# Altium footprint library chip.PcbLib: 31 footprints (part 1 of 2)
Each footprint in its own frame and in the unit in brackets; x right, y up, seen from the top. Pads: shape width x height; smd on the part's side, far side on the other; paste and mask are expansions set on the pad; w line width, h text height; cw(c..) or ccw(c..) is an arc to the next point about the centre after c.
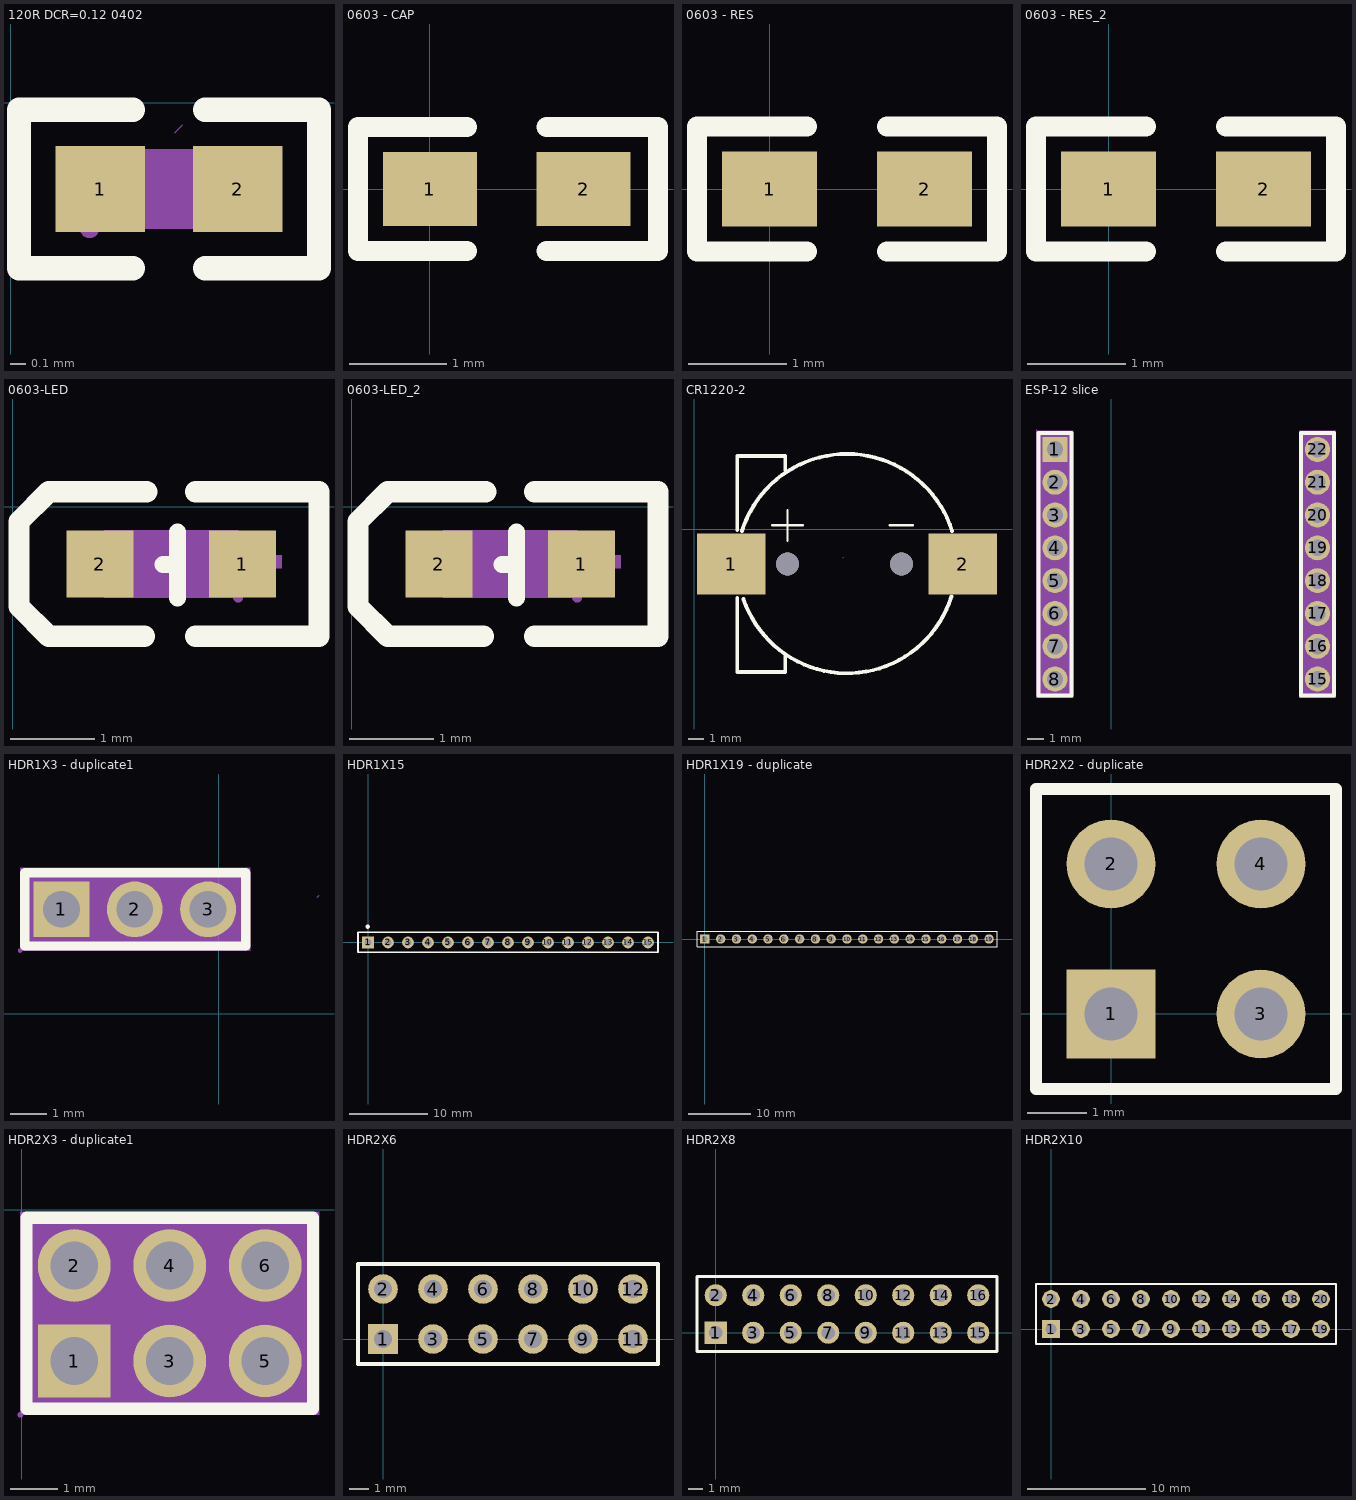
[diagram p0: the footprints below, top view; thin cyan lines are the x and y axes]

## 120R DCR=0.12 0402 [mm]
pads (2):
  rect 0.566x0.54 smd: 1(0.562,-0.543) 2(1.428,-0.543)
Top Overlay:
  lines w0.152: 0.769,-1.041 0.051,-1.041 0.051,-0.044 0.769,-0.044 ; 1.221,-1.041 1.939,-1.041 1.939,-0.044 1.221,-0.044
Top Paste:
  region: 0.86,-0.773 0.86,-0.313 0.82,-0.273 0.319,-0.273 0.279,-0.313 0.279,-0.773 0.319,-0.813 0.82,-0.813
  region: 1.13,-0.773 1.13,-0.313 1.17,-0.273 1.671,-0.273 1.711,-0.313 1.711,-0.773 1.671,-0.813 1.17,-0.813
Mechanical 4:
  region: 0.495,-0.793 0.495,-0.293 1.495,-0.293 1.495,-0.793
Mechanical 5:
  region: 1.496,-0.793 1.496,-0.293 1.246,-0.293 1.246,-0.793
  region: 0.495,-0.793 0.495,-0.293 0.745,-0.293 0.745,-0.793
Mechanical 6:
  circle w0.06: c0.495,-0.793 r0.03
Mechanical 15:
  lines w0.003: 1.031,-0.189 1.082,-0.138

## 0603 - CAP [mil]
pads (2):
  rect 38x30 smd: 1(0,0) 2(62,0)
Top Overlay:
  lines w8: 15,-25 -29,-25 -29,25 15,25 ; 47,-25 92,-25 92,25 47,25
3D body "0603 SMD Capacitor.STEP": height 11.89, standoff 0, extent 0.5,-16 63.5,15.49

## 0603 - RES [mil]
pads (2):
  rect 38x30 smd: 1(0,0) 2(62,0)
Top Overlay:
  lines w8: 15,-25 -29,-25 -29,25 15,25 ; 47,-25 91,-25 91,25 47,25
3D body "R0603.STEP": height 17.72, standoff 0, extent -0.49,-15.74 62.5,15.75

## 0603 - RES_2 [mil]
pads (2):
  rect 38x30 smd: 1(0,0) 2(62,0)
Top Overlay:
  lines w8: 15,-25 -29,-25 -29,25 15,25 ; 47,-25 91,-25 91,25 47,25
3D body "R0603.STEP": height 17.72, standoff 0, extent -0.49,-15.74 62.5,15.75

## 0603-LED [mm]
pads (2):
  rect 0.8x0.8 smd: 1(2.743,-0.686) 2(1.041,-0.686)
Top Overlay:
  lines w0.203: 1.793,-0.694 1.968,-0.694 ; 1.968,-1.092 1.968,-0.305
  lines w0.254: 1.575,-1.549 0.432,-1.549 0.076,-1.194 0.076,-0.178 0.432,0.178 1.6,0.178 ; 2.184,-1.549 3.658,-1.549 3.658,0.178 2.184,0.178
Mechanical 4:
  region: 1.092,-0.286 2.692,-0.286 2.692,-1.086 1.092,-1.086
Mechanical 5:
  region: 1.092,-1.086 1.092,-0.286 1.392,-0.286 1.392,-1.086
  region: 2.692,-0.286 2.692,-1.086 2.392,-1.086 2.392,-0.286
Mechanical 6:
  circle w0.06: c2.692,-1.086 r0.03
Mechanical 15:
  region: 0.699,-0.636 1.359,-0.636 1.359,-0.789 0.699,-0.789
  region: 2.828,-0.961 2.828,-0.301 2.98,-0.301 2.98,-0.961
  region: 2.553,-0.584 3.213,-0.584 3.213,-0.737 2.553,-0.737

## 0603-LED_2 [mm]
pads (2):
  rect 0.8x0.8 smd: 1(2.743,-0.686) 2(1.041,-0.686)
Top Overlay:
  lines w0.203: 1.793,-0.694 1.968,-0.694 ; 1.968,-1.092 1.968,-0.305
  lines w0.254: 1.575,-1.549 0.432,-1.549 0.076,-1.194 0.076,-0.178 0.432,0.178 1.6,0.178 ; 2.184,-1.549 3.658,-1.549 3.658,0.178 2.184,0.178
Mechanical 4:
  region: 1.092,-0.286 2.692,-0.286 2.692,-1.086 1.092,-1.086
Mechanical 5:
  region: 2.692,-0.286 2.692,-1.086 2.392,-1.086 2.392,-0.286
  region: 1.092,-1.086 1.092,-0.286 1.392,-0.286 1.392,-1.086
Mechanical 6:
  circle w0.06: c2.692,-1.086 r0.03
Mechanical 15:
  region: 2.553,-0.584 3.213,-0.584 3.213,-0.737 2.553,-0.737
  region: 2.828,-0.961 2.828,-0.301 2.98,-0.301 2.98,-0.961
  region: 0.699,-0.636 1.359,-0.636 1.359,-0.789 0.699,-0.789

## CR1220-2 [mm]
pads (4):
  rect 4.5x4 smd: 1(2.428,-2.28) 2(17.668,-2.28)
  round 1.5 hole 1.5 unplated: ""(6.136,-2.28) ""(13.629,-2.28)
Top Overlay:
  lines w0.152: 5.12,0.26 7.152,0.26 ; 6.136,-0.756 6.136,1.276 ; 12.867,0.26 14.391,0.26
  lines w0.254: 2.828,-4.511 2.828,-9.392 5.984,-9.392 5.984,-8.192 ; 2.828,-0.049 2.828,4.832 5.984,4.832 5.984,3.891 ; 3.137,-0.105 cw(c10.048,-2.28) 16.966,-0.126 ; 3.233,-4.578 ccw(c10.048,-2.28) 16.919,-4.404
Mechanical 15:
  lines w0.003: 9.768,-1.87 9.819,-1.82

## ESP-12 slice [mil] "2.00mm 8pin  排母"
pads (16):
  rect 60x60 hole 39.37: 1(-134.79,860.82)
  round 60 hole 39.37: 2(-134.79,782.08) 3(-134.79,703.34) 4(-134.79,624.6) 5(-134.79,545.86) 6(-134.79,467.12) 7(-134.79,388.38) 8(-134.79,309.64) 15(495.21,309.64) 16(495.21,388.38) 17(495.21,467.12) 18(495.21,545.86) 19(495.21,624.6) 20(495.21,703.34) 21(495.21,782.08) 22(495.21,860.82)
Top Overlay:
  lines w10: -174.16,270.27 -95.42,270.27 -95.42,900.19 -174.16,900.19 -174.16,270.27 ; 455.84,270.27 455.84,900.19 534.58,900.19 534.58,270.27 455.84,270.27
Mechanical 4:
  region: 539.58,905.19 539.58,265.27 450.84,265.27 450.84,905.19
  region: -90.42,905.19 -90.42,265.27 -179.16,265.27 -179.16,905.19
Mechanical 5:
  circle w15.75: c495.21,860.82 r7.87
  circle w15.75: c495.21,782.08 r7.87
  circle w15.75: c495.21,703.34 r7.87
  circle w15.75: c495.21,624.6 r7.87
  circle w15.75: c495.21,545.86 r7.87
  circle w15.75: c495.21,467.12 r7.87
  circle w15.75: c495.21,388.38 r7.87
  circle w15.75: c495.21,309.64 r7.87
  circle w15.75: c-134.79,309.64 r7.87
  circle w15.75: c-134.79,388.38 r7.87
  circle w15.75: c-134.79,467.12 r7.87
  circle w15.75: c-134.79,545.86 r7.87
  circle w15.75: c-134.79,624.6 r7.87
  circle w15.75: c-134.79,703.34 r7.87
  circle w15.75: c-134.79,782.08 r7.87
  circle w15.75: c-134.79,860.82 r7.87
Mechanical 6:
  circle w2.36: c-179.16,905.19 r1.18
Mechanical 15:
  lines w0.1: -121.64,586.23 -119.64,584.23 ; 508.36,586.23 510.36,584.23

## HDR1X3 - duplicate1 [mil] "2mm 3 pin 排针"
pads (3):
  rect 60x60 hole 39.37: 1(-168.82,112.21)
  round 60 hole 39.37: 2(-90.08,112.21) 3(-11.34,112.21)
Top Layer:
  region: 3,4
  region: 3,4
  region: 3,4
Top Overlay:
  lines w10: -208.19,72.84 29,72.84 29,151.58 -208.19,151.58 -208.19,72.84
Mechanical 4:
  region: -213.19,156.58 34,156.58 34,67.84 -213.19,67.84
Mechanical 5:
  circle w15.75: c-11.34,112.21 r7.87
  circle w15.75: c-90.08,112.21 r7.87
  circle w15.75: c-168.82,112.21 r7.87
Mechanical 6:
  circle w2.36: c-213.19,67.84 r1.18
Mechanical 15:
  lines w0.1: 105.77,125.36 107.77,127.36

## HDR1X15 [mm] "Connector; Header; 15 Position"
pads (15):
  rect 1.5x1.5 hole 0.9: 1(0,0)
  round 1.5 hole 0.9: 2(2.54,0) 3(5.08,0) 4(7.62,0) 5(10.16,0) 6(12.7,0) 7(15.24,0) 8(17.78,0) 9(20.32,0) 10(22.86,0) 11(25.4,0) 12(27.94,0) 13(30.48,0) 14(33.02,0) 15(35.56,0)
Top Overlay:
  circle w0.254: c-0.041,2 r0.141
  lines w0.2: -1.27,-1.27 -1.27,1.27 0.635,1.27 36.83,1.27 36.83,-1.27 -1.27,-1.27
3D body "HDR1x15.STEP": height 8.54, standoff -3, extent -1.27,-1.27 36.83,1.27

## HDR1X19 - duplicate [mm] "Connector; Header; 19 Position"
pads (19):
  rect 1.5x1.5 hole 0.9: 1(0,0)
  round 1.5 hole 0.9: 2(2.54,0) 3(5.08,0) 4(7.62,0) 5(10.16,0) 6(12.7,0) 7(15.24,0) 8(17.78,0) 9(20.32,0) 10(22.86,0) 11(25.4,0) 12(27.94,0) 13(30.48,0) 14(33.02,0) 15(35.56,0) 16(38.1,0) 17(40.64,0) 18(43.18,0) 19(45.72,0)
Top Overlay:
  lines w0.2: 37.465,1.27 37.677,1.27 ; -1.27,-1.27 46.99,-1.27 46.99,1.27 0.635,1.27 -1.27,1.27 -1.27,-1.27
3D body "HEADER 19.STEP": height 10.1, standoff -1.5, extent -1.067,-1.219 47.193,1.321

## HDR2X2 - duplicate [mm] "Connector; Header; 2x2 Position"
pads (4):
  rect 1.5x1.5 hole 0.9: 1(0,0)
  round 1.5 hole 0.9: 2(0,2.54) 3(2.54,0) 4(2.54,2.54)
Top Overlay:
  lines w0.2: -1.27,-1.27 3.81,-1.27 3.81,3.81 -1.27,3.81 -1.27,-1.27
3D body "HDR2x2.STEP": height 8.54, standoff -3, extent -1.27,-1.27 3.81,3.81

## HDR2X3 - duplicate1 [mil] "2mm 2x3pin 排针"
pads (6):
  rect 60x60 hole 39.37: 1(43.18,-124.79)
  round 60 hole 39.37: 2(43.18,-46.05) 3(121.92,-124.79) 4(121.92,-46.05) 5(200.66,-124.79) 6(200.66,-46.05)
Top Overlay:
  lines w10: 3.81,-164.16 240.03,-164.16 240.03,-6.68 3.81,-6.68 3.81,-164.16
Mechanical 4:
  region: -1.19,-1.68 245.03,-1.68 245.03,-169.16 -1.19,-169.16
Mechanical 5:
  circle w15.75: c200.66,-46.05 r7.87
  circle w15.75: c200.66,-124.79 r7.87
  circle w15.75: c121.92,-46.05 r7.87
  circle w15.75: c121.92,-124.79 r7.87
  circle w15.75: c43.18,-46.05 r7.87
  circle w15.75: c43.18,-124.79 r7.87
Mechanical 6:
  circle w2.36: c-1.19,-169.16 r1.18
Mechanical 15:
  lines w0.1: 120.92,-69.77 122.92,-67.77

## HDR2X6 [mm] "Connector; Header; 6x2 Position"
pads (12):
  rect 1.5x1.5 hole 0.9: 1(0,0)
  round 1.5 hole 0.9: 2(0,2.54) 3(2.54,0) 4(2.54,2.54) 5(5.08,0) 6(5.08,2.54) 7(7.62,0) 8(7.62,2.54) 9(10.16,0) 10(10.16,2.54) 11(12.7,0) 12(12.7,2.54)
Top Overlay:
  lines w0.2: -1.27,-1.27 13.97,-1.27 13.97,3.81 -1.27,3.81 -1.27,-1.27
3D body "HDR2x6.STEP": height 8.54, standoff -3, extent -1.27,-1.27 13.97,3.81

## HDR2X8 [mm] "Connector; Header; 8x2 Position"
pads (16):
  rect 1.5x1.5 hole 0.9: 1(0,0)
  round 1.5 hole 0.9: 2(0,2.54) 3(2.54,0) 4(2.54,2.54) 5(5.08,0) 6(5.08,2.54) 7(7.62,0) 8(7.62,2.54) 9(10.16,0) 10(10.16,2.54) 11(12.7,0) 12(12.7,2.54) 13(15.24,0) 14(15.24,2.54) 15(17.78,0) 16(17.78,2.54)
Top Overlay:
  lines w0.2: -1.27,-1.27 -1.27,3.81 19.05,3.81 19.05,-1.27 -1.27,-1.27
3D body "HDR2x8.STEP": height 8.54, standoff -3, extent -1.27,-1.27 19.05,3.81

## HDR2X10 [mm] "Connector; Header; 10x2 Position"
pads (20):
  rect 1.5x1.5 hole 0.9: 1(0,0)
  round 1.5 hole 0.9: 2(0,2.54) 3(2.54,0) 4(2.54,2.54) 5(5.08,0) 6(5.08,2.54) 7(7.62,0) 8(7.62,2.54) 9(10.16,0) 10(10.16,2.54) 11(12.7,0) 12(12.7,2.54) 13(15.24,0) 14(15.24,2.54) 15(17.78,0) 16(17.78,2.54) 17(20.32,0) 18(20.32,2.54) 19(22.86,0) 20(22.86,2.54)
Top Overlay:
  lines w0.2: -1.27,-1.27 0.635,-1.27 24.13,-1.27 24.13,3.81 0.635,3.81 -1.27,3.81 -1.27,-1.27
3D body "HDR2x10.STEP": height 8.54, standoff -3, extent -1.27,-1.27 24.13,3.81